# Altium footprint library SamacSys.PcbLib: 37 footprints (part 3 of 3)
Each footprint in its own frame and in the unit in brackets; x right, y up, seen from the top. Pads: shape width x height; smd on the part's side, far side on the other; paste and mask are expansions set on the pad; w line width, h text height; cw(c..) or ccw(c..) is an arc to the next point about the centre after c.
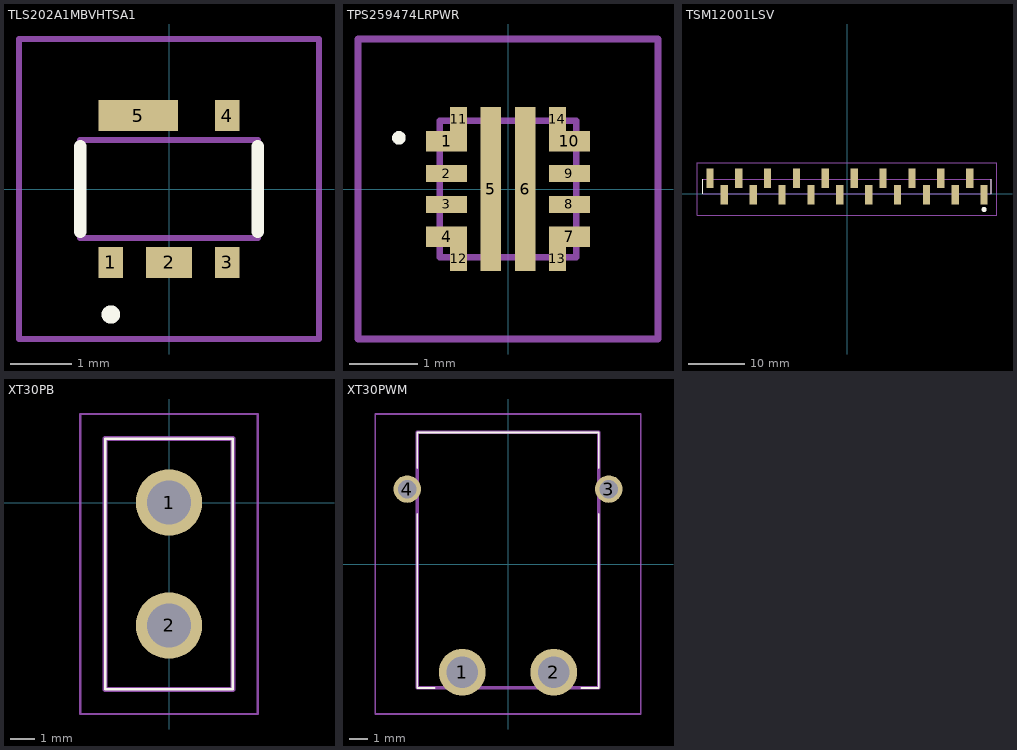
[diagram p2: the footprints below, top view; thin cyan lines are the x and y axes]

## TLS202A1MBVHTSA1 [mm]
pads (5):
  rect 0.4x0.5 smd: 1(-0.95,-1.2) 3(0.95,-1.2) 4(0.95,1.2)
  rect 0.75x0.5 smd: 2(0,-1.2)
  rect 1.3x0.5 smd: 5(-0.5,1.2)
Top Overlay:
  lines w0.2: -0.95,-2.1 ccw(c-0.95,-2.05) -0.95,-2 ; -0.95,-2.1 cw(c-0.95,-2.05) -0.95,-2 ; -0.95,-2.1 ccw(c-0.95,-2.05) -0.95,-2 ; -1.45,-0.7 -1.45,0.7 -1.45,-0.7 ; 1.45,-0.7 1.45,0.7 1.45,-0.7
Mechanical 13:
  lines w0.1: -1.45,-0.8 -1.45,0.8 1.45,0.8 1.45,-0.8 -1.45,-0.8
Mechanical 15:
  lines w0.1: -2.45,-2.45 -2.45,2.45 2.45,2.45 2.45,-2.45 -2.45,-2.45
3D body "TLS202A1MBVHTSA1.stp": height 0.55, standoff -0.65, extent -1.45,-1.25 1.45,1.25

## TPS259474LRPWR [mm]
pads (14):
  rect 0.6x0.3 smd: 1(-0.9,0.7) 4(-0.9,-0.7) 7(0.9,-0.7) 10(0.9,0.7)
  rect 0.6x0.25 smd: 2(-0.9,0.225) 3(-0.9,-0.225) 8(0.9,-0.225) 9(0.9,0.225)
  rect 0.3x2.4 smd: 5(-0.25,0) 6(0.25,0)
  rect 0.25x0.35 smd: 11(-0.725,1.025) 12(-0.725,-1.025) 13(0.725,-1.025) 14(0.725,1.025)
Top Overlay:
  lines w0.1: -1.6,0.7 ccw(c-1.6,0.75) -1.6,0.8 ccw(c-1.6,0.75) -1.6,0.7
Mechanical 13:
  lines w0.1: -1,-1 -1,1 1,1 1,-1 -1,-1
Mechanical 15:
  lines w0.1: -2.2,-2.2 -2.2,2.2 2.2,2.2 2.2,-2.2 -2.2,-2.2
3D body "TPS259474LRPWR.stp": height 1, standoff 0, extent -1,-1 1,1

## TSM12001LSV [mm]
pads (20):
  rect 1.27x3.43 smd: 1(24.13,-0.14) 2(21.59,2.78) 3(19.05,-0.14) 4(16.51,2.78) 5(13.97,-0.14) 6(11.43,2.78) 7(8.89,-0.14) 8(6.35,2.78) 9(3.81,-0.14) 10(1.27,2.78) 11(-1.27,-0.14) 12(-3.81,2.78) 13(-6.35,-0.14) 14(-8.89,2.78) 15(-11.43,-0.14) 16(-13.97,2.78) 17(-16.51,-0.14) 18(-19.05,2.78) 19(-21.59,-0.14) 20(-24.13,2.78)
Top Overlay:
  lines w0.1: -25.4,0.05 -25.4,2.59 ; 25.4,0.05 25.4,2.59
  lines w0.8: 24.13,-2.78 ccw(c24.13,-2.73) 24.13,-2.68 ccw(c24.13,-2.73) 24.13,-2.78
Mechanical 13:
  lines w0.2: -25.4,0.05 -25.4,2.59 25.4,2.59 25.4,0.05 -25.4,0.05
Mechanical 15:
  lines w0.1: -26.4,-3.78 -26.4,5.495 26.4,5.495 26.4,-3.78 -26.4,-3.78
3D body "TSM-120-01-L-SV.stp": height 8.48, standoff 0, extent -25.4,-1.728 25.4,4.368

## XT30PB [mm]
pads (2):
  round 2.7 hole 1.8: 1(0,0) 2(0,-5)
Top Overlay:
  lines w0.1: -2.6,-7.6 -2.6,2.6 2.6,2.6 2.6,-7.6 -2.6,-7.6
Mechanical 13:
  lines w0.2: -2.6,-7.6 -2.6,2.6 2.6,2.6 2.6,-7.6 -2.6,-7.6
Mechanical 15:
  lines w0.1: -3.6,-8.6 -3.6,3.6 3.6,3.6 3.6,-8.6 -3.6,-8.6
3D body "XT30PB.stp": height 10.66, standoff -2.04, extent -2.6,-7.6 2.6,2.6

## XT30PWM [mm]
pads (4):
  round 2.55 hole 1.7: 1(-2.5,-5.912) 2(2.5,-5.912)
  round 1.5 hole 1: 3(5.5,4.088) 4(-5.5,4.088)
Top Overlay:
  lines w0.1: -4.95,2.737 -4.95,-6.762 -4,-6.762 ; -4.95,5.237 -4.95,7.187 4.95,7.187 4.95,5.237 ; 4,-6.762 4.95,-6.762 4.95,2.737
Mechanical 13:
  lines w0.2: -4.95,-6.762 -4.95,7.187 4.95,7.187 4.95,-6.762 -4.95,-6.762
Mechanical 15:
  lines w0.1: -7.25,-8.188 -7.25,8.188 7.25,8.188 7.25,-8.188 -7.25,-8.188
3D body "XT30PW-M.stp": height 5.06, standoff -2.44, extent -6.65,-6.71 6.65,7.24